# EAGLE library part CON9P1R (library ads4)
9-pin single-row connector
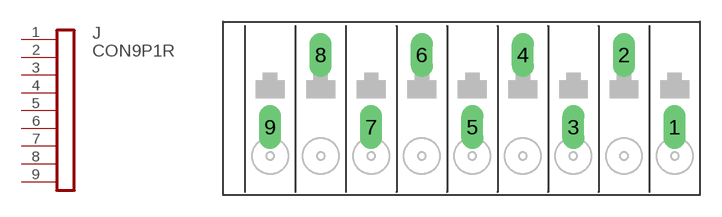
[diagram p88: symbol with the pads of 1985263; footprint 1985263]

Designator prefix J

## CON9P1R1985263  [1985263]
1  1
2  2
3  3
4  4
5  5
6  6
7  7
8  8
9  9

## Footprint 1985263 (pad centres in mm)
Phoenix Contact 1985263 9-position 3.5mm terminal block 13.1mm tall VERIFY ORIENTATION! PART MAY BE BOTTOM VIEW
drill 1 long: 1 14,-2.5; 2 10.5,2.5; 3 7,-2.5; 4 3.5,2.5; 5 0,-2.5; 6 -3.5,2.5; 7 -7,-2.5; 8 -10.5,2.5; 9 -14,-2.5